# EAGLE library part RPI_SHIELD (library rpi_shield)
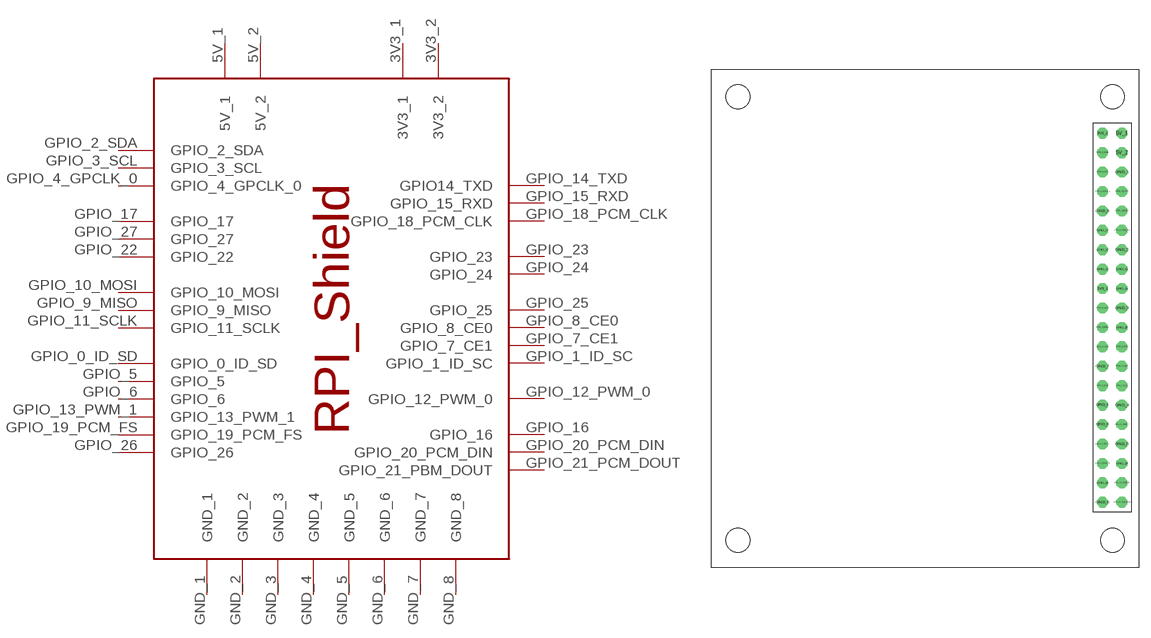
[diagram p0: symbol with the pads of RPI_SHIELD; footprint RPI_SHIELD]

Designator prefix -

## RPI_SHIELD  [RPI_SHIELD]
3V3_1  3V3_1
3V3_2  3V3_2
5V_1  5V_1
5V_2  5V_2
GND_1  GND_1
GND_2  GND_2
GND_3  GND_3
GND_4  GND_4
GND_5  GND_5
GND_6  GND_6
GND_7  GND_7
GND_8  GND_8
GPIO_0_ID_SD  GPIO_0_ID_SD
GPIO_1_ID_SC  GPIO_1_ID_SC
GPIO_2_SDA  GPIO_2_SDA
GPIO_3_SCL  GPIO_3_SCL
GPIO_4_GPCLK_0  GPIO_4_GPCLK_0
GPIO_5  GPIO_5
GPIO_6  GPIO_6
GPIO_7_CE1  GPIO_7_CE1
GPIO_8_CE0  GPIO_8_CE0
GPIO_9_MISO  GPIO_9_MISO
GPIO_10_MOSI  GPIO_10_MOSI
GPIO_11_SCLK  GPIO_11_SCLK
GPIO_12_PWM_0  GPIO_12_PWM_0
GPIO_13_PWM_1  GPIO_13_PWM_1
GPIO_14_TXD  GPIO14_TXD
GPIO_15_RXD  GPIO_15_RXD
GPIO_16  GPIO_16
GPIO_17  GPIO_17
GPIO_18_PCM_CLK  GPIO_18_PCM_CLK
GPIO_19_PCM_FS  GPIO_19_PCM_FS
GPIO_20_PCM_DIN  GPIO_20_PCM_DIN
GPIO_21_PCM_DOUT  GPIO_21_PBM_DOUT
GPIO_22  GPIO_22
GPIO_23  GPIO_23
GPIO_24  GPIO_24
GPIO_25  GPIO_25
GPIO_26  GPIO_26
GPIO_27  GPIO_27

## Footprint RPI_SHIELD (pad centres in mm)
drill 0.9 octagon: 3V3_1 51.07,36.18; 3V3_2 51.07,56.5; 5V_1 53.61,56.5; 5V_2 53.61,53.96; GND_1 53.61,51.42; GND_2 53.61,41.26; GND_3 53.61,33.64; GND_4 53.61,20.94; GND_5 53.61,15.86; GND_6 51.07,8.24; GND_7 51.07,26.02; GND_8 51.07,46.34; GPIO_0_ID_SD 51.07,23.48; GPIO_1_ID_SC 53.61,23.48; GPIO_2_SDA 51.07,53.96; GPIO_3_SCL 51.07,51.42; GPIO_4_GPCLK_0 51.07,48.88; GPIO_5 51.07,20.94; GPIO_6 51.07,18.4; GPIO_7_CE1 53.61,26.02; GPIO_8_CE0 53.61,28.56; GPIO_9_MISO 51.07,31.1; GPIO_10_MOSI 51.07,33.64; GPIO_11_SCLK 51.07,28.56; GPIO_12_PWM_0 53.61,18.4; GPIO_13_PWM_1 51.07,15.86; GPIO_14_TXD 53.61,48.88; GPIO_15_RXD 53.61,46.34; GPIO_16 53.61,13.32; GPIO_17 51.07,43.8; GPIO_18_PCM_CLK 53.61,43.8; GPIO_19_PCM_FS 51.07,13.32; GPIO_20_PCM_DIN 53.61,10.78; GPIO_21_PCM_DOUT 53.61,8.24; GPIO_22 51.07,38.72; GPIO_23 53.61,38.72; GPIO_24 53.61,36.18; GPIO_25 53.61,31.1; GPIO_26 51.07,10.78; GPIO_27 51.07,41.26
hole 3.1 at 52.38,61.27
hole 3.1 at 3.38,61.27
hole 3.1 at 3.38,3.27
hole 3.1 at 52.38,3.27